# EAGLE library part TPS2116DRLR (library SamacSys_Parts)
d Source: Datasheet <https://www.ti.com/lit/gpn/tps2116>
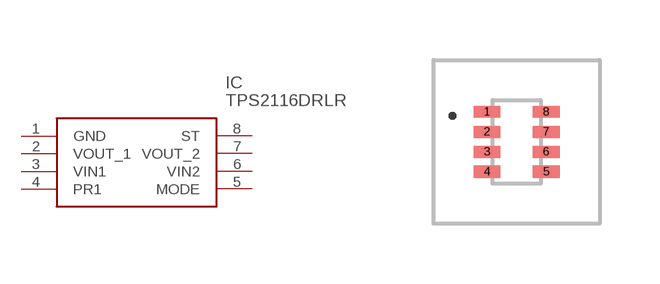
[diagram p142: symbol with the pads of TPS62932DRLR; footprint TPS62932DRLR]

Designator prefix IC

## TPS2116DRLR (DESCRIPTION: d; HEIGHT: 0.6mm; MANUFACTURER_NAME: Texas Instruments; MANUFACTURER_PART_NUMBER: TPS2116DRLR; MOUSER_PART_NUMBER: 595-TPS2116DRLR; MOUSER_PRICE-STOCK: https://www.mouser.co.uk/ProductDetail/Texas-Instruments/TPS2116DRLR?qs=aP1CjGhiNiGo3XAyXcVPaQ%3D%3D)  [TPS62932DRLR]
1  GND
2  VOUT_1
3  VIN1
4  PR1
5  MODE
6  VIN2
7  VOUT_2
8  ST

## Footprint TPS62932DRLR (pad centres in mm)
DRL0008A
smd 0.67 x 0.3: 1 -0.74,0.75; 2 -0.74,0.25; 3 -0.74,-0.25; 4 -0.74,-0.75; 5 0.74,-0.75; 6 0.74,-0.25; 7 0.74,0.25; 8 0.74,0.75